# Altium footprint library CC1111_REF.PcbLib: 17 footprints (part 1 of 2)
Each footprint in its own frame and in the unit in brackets; x right, y up, seen from the top. Pads: shape width x height; smd on the part's side, far side on the other; paste and mask are expansions set on the pad; w line width, h text height; cw(c..) or ccw(c..) is an arc to the next point about the centre after c.
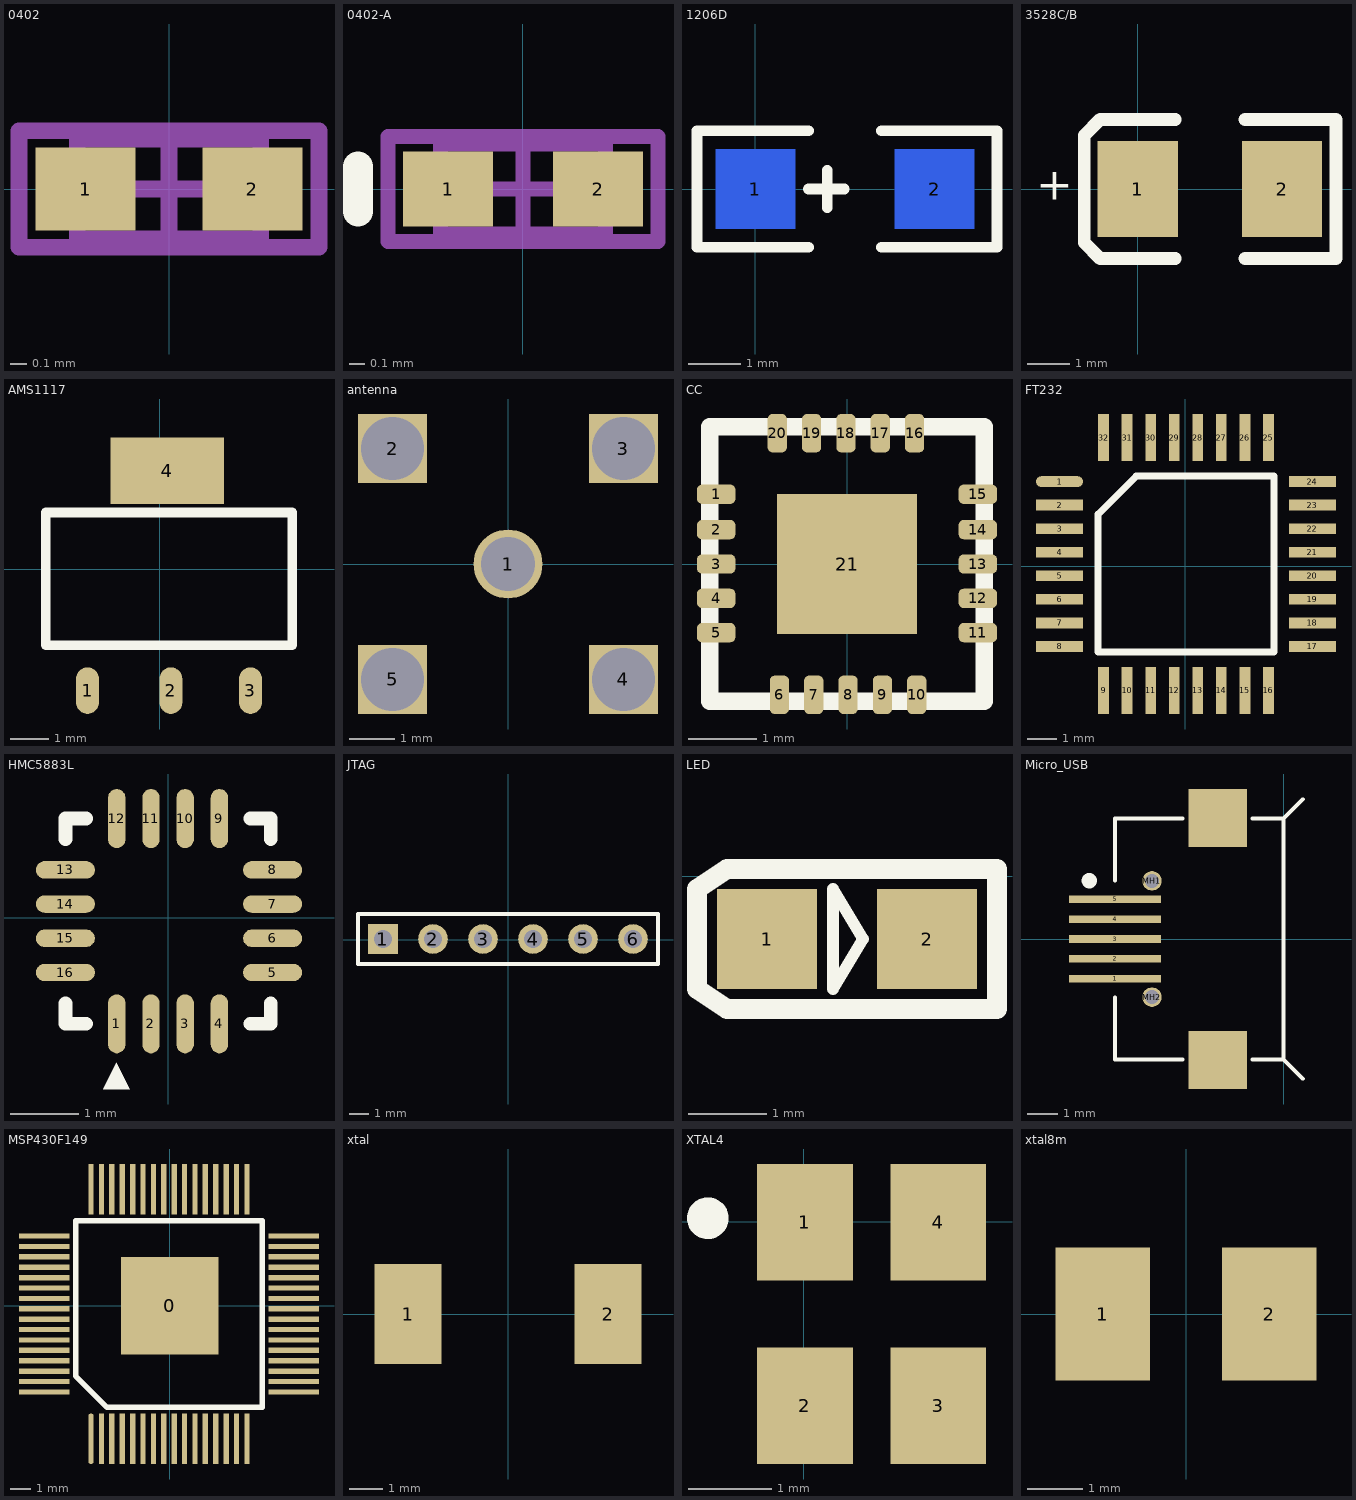
[diagram p0: the footprints below, top view; thin cyan lines are the x and y axes]

## 0402 [mm] "Chip Capacitor, Body 1.0x0.5mm, IPC High Density"
height 1.3
pads (2):
  rect 0.6x0.5 smd: 1(-0.5,0) 2(0.5,0)
Mechanical 13:
  lines w0.1: -0.55,-0.3 -0.55,0.3 0.55,0.3 0.55,-0.3 -0.55,-0.3
Mechanical 15:
  lines w0.1: -0.3,0 0.3,0 ; 0,-0.3 0,0.3 ; -0.9,-0.35 -0.9,0.35 0.9,0.35 0.9,-0.35 -0.9,-0.35
3D body: height 1.3, standoff 0, extent -0.55,-0.3 0.55,0.3

## 0402-A [mm] "Chip Inductor, Body 1.0x0.5mm, IPC High Density"
height 0.55
pads (2):
  rect 0.6x0.5 smd: 1(-0.5,0) 2(0.5,0)
Top Overlay:
  lines w0.2: -1.1,-0.15 -1.1,0.15
Mechanical 13:
  lines w0.1: -0.55,-0.3 0.55,-0.3 0.55,0.3 -0.55,0.3 -0.55,-0.3
Mechanical 15:
  lines w0.1: -0.3,0 0.3,0 ; 0,-0.3 0,0.3 ; -0.9,-0.35 0.9,-0.35 0.9,0.35 -0.9,0.35 -0.9,-0.35
3D body: height 0.55, standoff 0, extent -0.55,-0.3 0.55,0.3

## 1206D [mil]
height 21.65
pads (2):
  rect 60x60 smd far side: 1(0,0) 2(135,0)
Top Overlay:
  lines w8: 40,-44 -44,-44 -44,44 40,44 ; 40,0 67,0 ; 54,-14 54,14 ; 95,-44 182,-44 182,44 95,44

## 3528C/B [mm]
height 5.08
pads (2):
  rect 1.9x2.28 smd: 1(0,0) 2(3.42,0)
Top Overlay:
  lines w0.305: 0.889,-1.651 -0.889,-1.651 -1.27,-1.27 -1.27,1.27 -0.889,1.651 0.889,1.651 ; 2.54,-1.651 4.699,-1.651 4.699,1.651 2.54,1.651
  text "+" at -2.413,-0.254 h0.76

## AMS1117 [mm]
height 0.55
pads (4):
  rrect100% 0.604x1.231 smd mask+0.07: 1(-1.9,-3.2) 2(0.3,-3.2) 3(2.4,-3.2)
  rect 3x1.75 smd mask+0.07: 4(0.2,2.6)
Top Overlay:
  lines w0.254: -3,-2 -3,1.5 3.5,1.5 3.5,-2 -3,-2

## antenna [mil]
height 21.65
pads (5):
  round 60 hole 47.24: 1(0,0)
  rect 60x60 hole 55 square: 2(-100.39,100.39) 3(100.39,100.39) 4(100.39,-100.39) 5(-100.39,-100.39)

## CC [mil]
height 21.65
pads (21):
  rrect50% 22x11 smd mask+2.76: 1(-75,40) 2(-75,19.69) 3(-75,0) 4(-75,-19.69) 5(-75,-39.37) 11(75,-39.37) 12(75,-19.69) 13(75,0) 14(75,19.69) 15(75,40)
  rrect50% 11x22 smd mask+2.76: 6(-38.74,-75) 7(-19.06,-75) 8(0.63,-75) 9(20.32,-75) 10(40,-75) 16(38.74,75) 17(19.06,75) 18(-0.63,75) 19(-20.32,75) 20(-40,75)
  rect 80x80 smd: 21(0,0)
Top Overlay:
  lines w10: -78.74,-78.74 -78.74,78.74 78.74,78.74 78.74,-78.74 -78.74,-78.74

## FT232 [mm]
height 0.55
pads (32):
  oval 1.6x0.37 smd: 1(-4.274,2.87)
  rect 1.6x0.37 smd: 2(-4.274,2.07) 3(-4.274,1.27) 4(-4.274,0.47) 5(-4.274,-0.33) 6(-4.274,-1.13) 7(-4.274,-1.93) 8(-4.274,-2.73) 17(4.326,-2.73) 18(4.326,-1.93) 19(4.326,-1.13) 20(4.326,-0.33) 21(4.326,0.47) 22(4.326,1.27) 23(4.326,2.07) 24(4.326,2.87)
  rect 0.37x1.6 smd: 9(-2.774,-4.23) 10(-1.974,-4.23) 11(-1.174,-4.23) 12(-0.374,-4.23) 13(0.426,-4.23) 14(1.226,-4.23) 15(2.026,-4.23) 16(2.826,-4.23) 25(2.826,4.37) 26(2.026,4.37) 27(1.226,4.37) 28(0.426,4.37) 29(-0.374,4.37) 30(-1.174,4.37) 31(-1.974,4.37) 32(-2.774,4.37)
Top Overlay:
  lines w0.254: -2.966,-2.922 -2.966,1.754 -1.658,3.062 3.018,3.062 3.018,-2.922 -2.966,-2.922

## HMC5883L [mil]
height 21.65
pads (16):
  oval 10x34 smd: 1(-29.53,-61.02) 2(-9.84,-61.02) 3(9.84,-61.02) 4(29.53,-61.02) 9(29.53,57.09) 10(9.84,57.09) 11(-9.84,57.09) 12(-29.53,57.09)
  oval 34x10 smd: 5(60.12,-31.5) 6(60.12,-11.81) 7(60.12,7.87) 8(60.12,27.56) 13(-59.06,27.56) 14(-59.06,7.87) 15(-59.06,-11.81) 16(-59.06,-31.5)
Top Overlay:
  region: -37.19,-98.52 -22.19,-98.52 -29.69,-83.52
  lines w7.87: -59.06,-49.21 -59.06,-61.02 -47.24,-61.02 ; -59.06,45.28 -59.06,57.09 -47.24,57.09 ; 47.24,-61.02 59.06,-61.02 59.06,-49.21 ; 47.24,57.09 59.06,57.09 59.06,45.28

## JTAG [mm]
height 0.55
pads (6):
  rect 1.5x1.5 hole 0.9: 1(-6.352,0.026)
  round 1.5 hole 0.9: 2(-3.812,0.026) 3(-1.272,0.026) 4(1.268,0.026) 5(3.808,0.026) 6(6.348,0.026)
Top Overlay:
  lines w0.2: -7.622,-1.244 -7.622,1.296 7.618,1.296 7.618,-1.244 -7.622,-1.244

## LED [mm]
height 0.55
pads (2):
  rect 1.27x1.27 smd: 1(1.7,-0.8) 2(3.732,-0.8)
Top Overlay:
  lines w0.15: 2.538,-1.435 2.919,-0.8 2.538,-0.165 2.538,-1.435
  lines w0.254: 0.811,-1.435 1.192,-1.689 4.621,-1.689 4.621,0.089 1.192,0.089 0.811,-0.165 0.811,-1.435

## Micro_USB [mm]
height 0.55
pads (9):
  rect 3x0.25 smd: 1(-5.508,-1.3) 2(-5.508,-0.65) 3(-5.508,0) 4(-5.508,0.65) 5(-5.508,1.3)
  round 0.635 hole 0.457 unplated: MH1(-4.3,1.9) MH2(-4.3,-1.9)
  rect 1.9x1.9 smd: ""(-2.15,-3.95) ""(-2.15,3.95)
Top Overlay:
  circle w0.25: c-6.348,1.905 r0.125
  lines w0.127: -5.508,-3.937 -3.302,-3.937 ; -5.508,-3.9 -5.508,-1.905 ; -5.508,1.905 -5.508,3.9 ; -5.508,3.937 -3.302,3.937 ; -1.016,-3.937 0,-3.937 0.63,-4.567 ; -1.016,3.937 0,3.937 0.63,4.567 ; 0,-3.9 0,3.9

## MSP430F149 [mil]
height 21.65
pads (65):
  rect 185.04x185.04 smd: 0(0,0)
  oval 10x95.74 smd: 1(-149.33,-251.57)
  rect 10x95.74 smd: 2(-129.65,-251.57) 3(-109.96,-251.57) 4(-90.28,-251.57) 5(-70.59,-251.57) 6(-50.91,-251.57) 7(-31.22,-251.57) 8(-11.54,-251.57) 9(8.15,-251.57) 10(27.83,-251.57) 11(47.52,-251.57) 12(67.2,-251.57) 13(86.89,-251.57) 14(106.57,-251.57) 15(126.26,-251.57) 16(145.94,-251.57) 33(145.94,220.87) 34(126.26,220.87) 35(106.57,220.87) 36(86.89,220.87) 37(67.2,220.87) 38(47.52,220.87) 39(27.83,220.87) 40(8.15,220.87) 41(-11.54,220.87) 42(-31.22,220.87) 43(-50.91,220.87) 44(-70.59,220.87) 45(-90.28,220.87) 46(-109.96,220.87) 47(-129.65,220.87) 48(-149.33,220.87)
  rect 95.74x10 smd: 17(234.53,-162.99) 18(234.53,-143.31) 19(234.53,-123.62) 20(234.53,-103.94) 21(234.53,-84.25) 22(234.53,-64.57) 23(234.53,-44.88) 24(234.53,-25.2) 25(234.53,-5.51) 26(234.53,14.17) 27(234.53,33.86) 28(234.53,53.54) 29(234.53,73.23) 30(234.53,92.91) 31(234.53,112.6) 32(234.53,132.28) 49(-237.91,132.28) 50(-237.91,112.6) 51(-237.91,92.91) 52(-237.91,73.23) 53(-237.91,53.54) 54(-237.91,33.86) 55(-237.91,14.17) 56(-237.91,-5.51) 57(-237.91,-25.2) 58(-237.91,-44.88) 59(-237.91,-64.57) 60(-237.91,-84.25) 61(-237.91,-103.94) 62(-237.91,-123.62) 63(-237.91,-143.31) 64(-237.91,-162.99)
Top Overlay:
  lines w10: -178.54,-132.83 -178.54,161.5 175.16,161.5 175.16,-192.2 -119.17,-192.2 -178.54,-132.83

## xtal [mm]
pads (2):
  rect 2x3 smd: 1(-3,0) 2(3,0)

## XTAL4 [mm]
height 0.55
pads (4):
  rect 1.15x1.4 smd: 1(0.015,-0.007) 2(0.015,-2.207) 3(1.615,-2.207) 4(1.615,-0.007)
Top Overlay:
  circle w0.25: c-1.151,0.043 r0.125

## xtal8m [mm]
pads (2):
  rect 1.7x2.4 smd: 1(-1.5,0) 2(1.5,0)